# EAGLE library part SLIDE (library piccircuit)
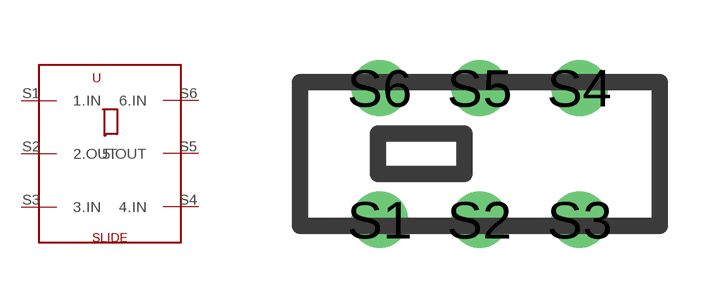
[diagram p2: symbol with the pads of SWITCH; footprint SWITCH]

Designator prefix -

## SLIDE  [SWITCH]
S1  1.IN
S2  2.OUT
S3  3.IN
S4  4.IN
S5  5.OUT
S6  6.IN

## Footprint SWITCH (pad centres in mm)
drill 0.9: S1 -2.5,-1.65; S2 0,-1.65; S3 2.5,-1.65; S4 2.5,1.65; S5 0,1.65; S6 -2.5,1.65